# Altium footprint library Freescale_Semiconductor_MCIMX6Q5EYM10ACR_0.PcbLib: 1 footprints
Each footprint in its own frame and in the unit in brackets; x right, y up, seen from the top. Pads: shape width x height; smd on the part's side, far side on the other; paste and mask are expansions set on the pad; w line width, h text height; cw(c..) or ccw(c..) is an arc to the next point about the centre after c.
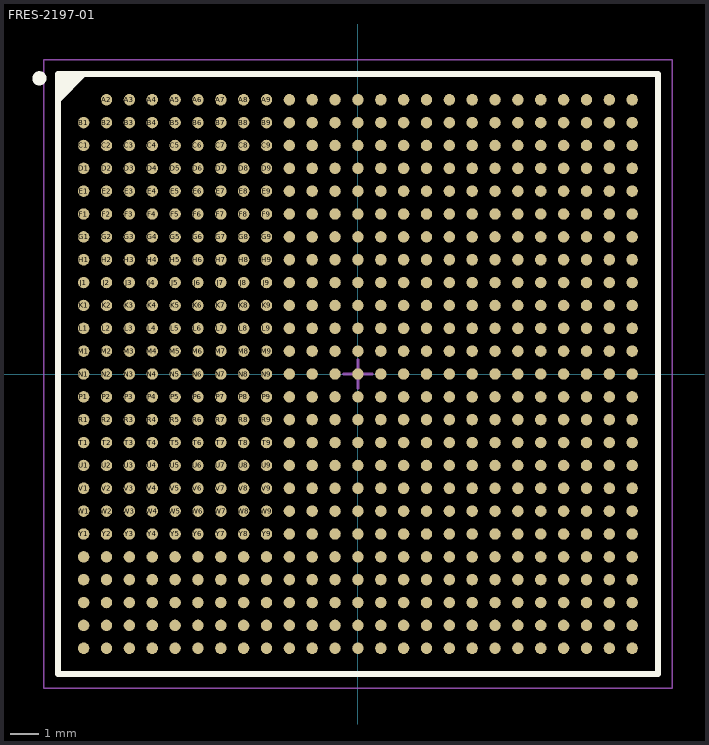
[diagram p0: the footprint, top view; thin cyan lines are the x and y axes]

## FRES-2197-01 [mm] "BGA, 624-Balls, Body 21x21mm, Pitch 0.8mm"
height 1.6
pads (624):
  round 0.4 smd mask+0.05: A2(-8.8,9.6) A3(-8,9.6) A4(-7.2,9.6) A5(-6.4,9.6) A6(-5.6,9.6) A7(-4.8,9.6) A8(-4,9.6) A9(-3.2,9.6) A10(-2.4,9.6) A11(-1.6,9.6) A12(-0.8,9.6) A13(0,9.6) A14(0.8,9.6) A15(1.6,9.6) A16(2.4,9.6) A17(3.2,9.6) A18(4,9.6) A19(4.8,9.6) A20(5.6,9.6) A21(6.4,9.6) A22(7.2,9.6) A23(8,9.6) A24(8.8,9.6) A25(9.6,9.6) AA1(-9.6,-6.4) AA2(-8.8,-6.4) AA3(-8,-6.4) AA4(-7.2,-6.4) AA5(-6.4,-6.4) AA6(-5.6,-6.4) AA7(-4.8,-6.4) AA8(-4,-6.4) AA9(-3.2,-6.4) AA10(-2.4,-6.4) AA11(-1.6,-6.4) AA12(-0.8,-6.4) AA13(0,-6.4) AA14(0.8,-6.4) AA15(1.6,-6.4) AA16(2.4,-6.4) AA17(3.2,-6.4) AA18(4,-6.4) AA19(4.8,-6.4) AA20(5.6,-6.4) AA21(6.4,-6.4) AA22(7.2,-6.4) AA23(8,-6.4) AA24(8.8,-6.4) AA25(9.6,-6.4) AB1(-9.6,-7.2) AB2(-8.8,-7.2) AB3(-8,-7.2) AB4(-7.2,-7.2) AB5(-6.4,-7.2) AB6(-5.6,-7.2) AB7(-4.8,-7.2) AB8(-4,-7.2) AB9(-3.2,-7.2) AB10(-2.4,-7.2) AB11(-1.6,-7.2) AB12(-0.8,-7.2) AB13(0,-7.2) AB14(0.8,-7.2) AB15(1.6,-7.2) AB16(2.4,-7.2) AB17(3.2,-7.2) AB18(4,-7.2) AB19(4.8,-7.2) AB20(5.6,-7.2) AB21(6.4,-7.2) AB22(7.2,-7.2) AB23(8,-7.2) AB24(8.8,-7.2) AB25(9.6,-7.2) AC1(-9.6,-8) AC2(-8.8,-8) AC3(-8,-8) AC4(-7.2,-8) AC5(-6.4,-8) AC6(-5.6,-8) AC7(-4.8,-8) AC8(-4,-8) AC9(-3.2,-8) AC10(-2.4,-8) AC11(-1.6,-8) AC12(-0.8,-8) AC13(0,-8) AC14(0.8,-8) AC15(1.6,-8) AC16(2.4,-8) AC17(3.2,-8) AC18(4,-8) AC19(4.8,-8) AC20(5.6,-8) AC21(6.4,-8) AC22(7.2,-8) AC23(8,-8) AC24(8.8,-8) AC25(9.6,-8) AD1(-9.6,-8.8) AD2(-8.8,-8.8) AD3(-8,-8.8) AD4(-7.2,-8.8) AD5(-6.4,-8.8) AD6(-5.6,-8.8) AD7(-4.8,-8.8) AD8(-4,-8.8) AD9(-3.2,-8.8) AD10(-2.4,-8.8) AD11(-1.6,-8.8) AD12(-0.8,-8.8) AD13(0,-8.8) AD14(0.8,-8.8) AD15(1.6,-8.8) AD16(2.4,-8.8) AD17(3.2,-8.8) AD18(4,-8.8) AD19(4.8,-8.8) AD20(5.6,-8.8) AD21(6.4,-8.8) AD22(7.2,-8.8) AD23(8,-8.8) AD24(8.8,-8.8) AD25(9.6,-8.8) AE1(-9.6,-9.6) AE2(-8.8,-9.6) AE3(-8,-9.6) AE4(-7.2,-9.6) AE5(-6.4,-9.6) AE6(-5.6,-9.6) AE7(-4.8,-9.6) AE8(-4,-9.6) AE9(-3.2,-9.6) AE10(-2.4,-9.6) AE11(-1.6,-9.6) AE12(-0.8,-9.6) AE13(0,-9.6) AE14(0.8,-9.6) AE15(1.6,-9.6) AE16(2.4,-9.6) AE17(3.2,-9.6) AE18(4,-9.6) AE19(4.8,-9.6) AE20(5.6,-9.6) AE21(6.4,-9.6) AE22(7.2,-9.6) AE23(8,-9.6) AE24(8.8,-9.6) AE25(9.6,-9.6) B1(-9.6,8.8) B2(-8.8,8.8) B3(-8,8.8) B4(-7.2,8.8) B5(-6.4,8.8) B6(-5.6,8.8) B7(-4.8,8.8) B8(-4,8.8) B9(-3.2,8.8) B10(-2.4,8.8) B11(-1.6,8.8) B12(-0.8,8.8) B13(0,8.8) B14(0.8,8.8) B15(1.6,8.8) B16(2.4,8.8) B17(3.2,8.8) B18(4,8.8) B19(4.8,8.8) B20(5.6,8.8) B21(6.4,8.8) B22(7.2,8.8) B23(8,8.8) B24(8.8,8.8) B25(9.6,8.8) C1(-9.6,8) C2(-8.8,8) C3(-8,8) C4(-7.2,8) C5(-6.4,8) C6(-5.6,8) C7(-4.8,8) C8(-4,8) C9(-3.2,8) C10(-2.4,8) C11(-1.6,8) C12(-0.8,8) C13(0,8) C14(0.8,8) C15(1.6,8) C16(2.4,8) C17(3.2,8) C18(4,8) C19(4.8,8) C20(5.6,8) C21(6.4,8) C22(7.2,8) C23(8,8) C24(8.8,8) C25(9.6,8) D1(-9.6,7.2) D2(-8.8,7.2) D3(-8,7.2) D4(-7.2,7.2) D5(-6.4,7.2) D6(-5.6,7.2) D7(-4.8,7.2) D8(-4,7.2) D9(-3.2,7.2) D10(-2.4,7.2) D11(-1.6,7.2) D12(-0.8,7.2) D13(0,7.2) D14(0.8,7.2) D15(1.6,7.2) D16(2.4,7.2) D17(3.2,7.2) D18(4,7.2) D19(4.8,7.2) D20(5.6,7.2) D21(6.4,7.2) D22(7.2,7.2) D23(8,7.2) D24(8.8,7.2) D25(9.6,7.2) E1(-9.6,6.4) E2(-8.8,6.4) E3(-8,6.4) E4(-7.2,6.4) E5(-6.4,6.4) E6(-5.6,6.4) E7(-4.8,6.4) E8(-4,6.4) E9(-3.2,6.4) E10(-2.4,6.4) E11(-1.6,6.4) E12(-0.8,6.4) E13(0,6.4) E14(0.8,6.4) E15(1.6,6.4) E16(2.4,6.4) E17(3.2,6.4) E18(4,6.4) E19(4.8,6.4) E20(5.6,6.4) E21(6.4,6.4) E22(7.2,6.4) E23(8,6.4) E24(8.8,6.4) E25(9.6,6.4) F1(-9.6,5.6) F2(-8.8,5.6) F3(-8,5.6) F4(-7.2,5.6) F5(-6.4,5.6) F6(-5.6,5.6) F7(-4.8,5.6) F8(-4,5.6) F9(-3.2,5.6) F10(-2.4,5.6) F11(-1.6,5.6) F12(-0.8,5.6) F13(0,5.6) F14(0.8,5.6) F15(1.6,5.6) F16(2.4,5.6) F17(3.2,5.6) F18(4,5.6) F19(4.8,5.6) F20(5.6,5.6) F21(6.4,5.6) F22(7.2,5.6) F23(8,5.6) F24(8.8,5.6) F25(9.6,5.6) G1(-9.6,4.8) G2(-8.8,4.8) G3(-8,4.8) G4(-7.2,4.8) G5(-6.4,4.8) G6(-5.6,4.8) G7(-4.8,4.8) G8(-4,4.8) G9(-3.2,4.8) G10(-2.4,4.8) G11(-1.6,4.8) G12(-0.8,4.8) G13(0,4.8) G14(0.8,4.8) G15(1.6,4.8) G16(2.4,4.8) G17(3.2,4.8) G18(4,4.8) G19(4.8,4.8) G20(5.6,4.8) G21(6.4,4.8) G22(7.2,4.8) G23(8,4.8) G24(8.8,4.8) G25(9.6,4.8) H1(-9.6,4) H2(-8.8,4) H3(-8,4) H4(-7.2,4) H5(-6.4,4) H6(-5.6,4) H7(-4.8,4) H8(-4,4) H9(-3.2,4) H10(-2.4,4) H11(-1.6,4) H12(-0.8,4) H13(0,4) H14(0.8,4) H15(1.6,4) H16(2.4,4) H17(3.2,4) H18(4,4) H19(4.8,4) H20(5.6,4) H21(6.4,4) H22(7.2,4) H23(8,4) H24(8.8,4) H25(9.6,4) J1(-9.6,3.2) J2(-8.8,3.2) J3(-8,3.2) J4(-7.2,3.2) J5(-6.4,3.2) J6(-5.6,3.2) J7(-4.8,3.2) J8(-4,3.2) J9(-3.2,3.2) J10(-2.4,3.2) J11(-1.6,3.2) J12(-0.8,3.2) J13(0,3.2) J14(0.8,3.2) J15(1.6,3.2) J16(2.4,3.2) J17(3.2,3.2) J18(4,3.2) J19(4.8,3.2) J20(5.6,3.2) J21(6.4,3.2) J22(7.2,3.2) J23(8,3.2) J24(8.8,3.2) J25(9.6,3.2) K1(-9.6,2.4) K2(-8.8,2.4) K3(-8,2.4) K4(-7.2,2.4) K5(-6.4,2.4) K6(-5.6,2.4) K7(-4.8,2.4) K8(-4,2.4) K9(-3.2,2.4) K10(-2.4,2.4) K11(-1.6,2.4) K12(-0.8,2.4) K13(0,2.4) K14(0.8,2.4) K15(1.6,2.4) K16(2.4,2.4) K17(3.2,2.4) K18(4,2.4) K19(4.8,2.4) K20(5.6,2.4) K21(6.4,2.4) K22(7.2,2.4) K23(8,2.4) K24(8.8,2.4) K25(9.6,2.4) L1(-9.6,1.6) L2(-8.8,1.6) L3(-8,1.6) L4(-7.2,1.6) L5(-6.4,1.6) L6(-5.6,1.6) L7(-4.8,1.6) L8(-4,1.6) L9(-3.2,1.6) L10(-2.4,1.6) L11(-1.6,1.6) L12(-0.8,1.6) L13(0,1.6) L14(0.8,1.6) L15(1.6,1.6) L16(2.4,1.6) L17(3.2,1.6) L18(4,1.6) L19(4.8,1.6) L20(5.6,1.6) L21(6.4,1.6) L22(7.2,1.6) L23(8,1.6) L24(8.8,1.6) L25(9.6,1.6) M1(-9.6,0.8) M2(-8.8,0.8) M3(-8,0.8) M4(-7.2,0.8) M5(-6.4,0.8) M6(-5.6,0.8) M7(-4.8,0.8) M8(-4,0.8) M9(-3.2,0.8) M10(-2.4,0.8) M11(-1.6,0.8) M12(-0.8,0.8) M13(0,0.8) M14(0.8,0.8) M15(1.6,0.8) M16(2.4,0.8) M17(3.2,0.8) M18(4,0.8) M19(4.8,0.8) M20(5.6,0.8) M21(6.4,0.8) M22(7.2,0.8) M23(8,0.8) M24(8.8,0.8) M25(9.6,0.8) N1(-9.6,0) N2(-8.8,0) N3(-8,0) N4(-7.2,0) N5(-6.4,0) N6(-5.6,0) N7(-4.8,0) N8(-4,0) N9(-3.2,0) N10(-2.4,0) N11(-1.6,0) N12(-0.8,0) N13(0,0) N14(0.8,0) N15(1.6,0) N16(2.4,0) N17(3.2,0) N18(4,0) N19(4.8,0) N20(5.6,0) N21(6.4,0) N22(7.2,0) N23(8,0) N24(8.8,0) N25(9.6,0) P1(-9.6,-0.8) P2(-8.8,-0.8) P3(-8,-0.8) P4(-7.2,-0.8) P5(-6.4,-0.8) P6(-5.6,-0.8) P7(-4.8,-0.8) P8(-4,-0.8) P9(-3.2,-0.8) P10(-2.4,-0.8) P11(-1.6,-0.8) P12(-0.8,-0.8) P13(0,-0.8) P14(0.8,-0.8) P15(1.6,-0.8) P16(2.4,-0.8) P17(3.2,-0.8) P18(4,-0.8) P19(4.8,-0.8) P20(5.6,-0.8) P21(6.4,-0.8) P22(7.2,-0.8) P23(8,-0.8) P24(8.8,-0.8) P25(9.6,-0.8) R1(-9.6,-1.6) R2(-8.8,-1.6) R3(-8,-1.6) R4(-7.2,-1.6) R5(-6.4,-1.6) R6(-5.6,-1.6) R7(-4.8,-1.6) R8(-4,-1.6) R9(-3.2,-1.6) R10(-2.4,-1.6) R11(-1.6,-1.6) R12(-0.8,-1.6) R13(0,-1.6) R14(0.8,-1.6) R15(1.6,-1.6) R16(2.4,-1.6) R17(3.2,-1.6) R18(4,-1.6) R19(4.8,-1.6) R20(5.6,-1.6) R21(6.4,-1.6) R22(7.2,-1.6) R23(8,-1.6) R24(8.8,-1.6) R25(9.6,-1.6) T1(-9.6,-2.4) T2(-8.8,-2.4) T3(-8,-2.4) T4(-7.2,-2.4) T5(-6.4,-2.4) T6(-5.6,-2.4) T7(-4.8,-2.4) T8(-4,-2.4) T9(-3.2,-2.4) T10(-2.4,-2.4) T11(-1.6,-2.4) T12(-0.8,-2.4) T13(0,-2.4) T14(0.8,-2.4) T15(1.6,-2.4) T16(2.4,-2.4) T17(3.2,-2.4) T18(4,-2.4) T19(4.8,-2.4) T20(5.6,-2.4) T21(6.4,-2.4) T22(7.2,-2.4) T23(8,-2.4) T24(8.8,-2.4) T25(9.6,-2.4) U1(-9.6,-3.2) U2(-8.8,-3.2) U3(-8,-3.2) U4(-7.2,-3.2) U5(-6.4,-3.2) U6(-5.6,-3.2) U7(-4.8,-3.2) U8(-4,-3.2) U9(-3.2,-3.2) U10(-2.4,-3.2) U11(-1.6,-3.2) U12(-0.8,-3.2) U13(0,-3.2) U14(0.8,-3.2) U15(1.6,-3.2) U16(2.4,-3.2) U17(3.2,-3.2) U18(4,-3.2) U19(4.8,-3.2) U20(5.6,-3.2) U21(6.4,-3.2) U22(7.2,-3.2) U23(8,-3.2) U24(8.8,-3.2) U25(9.6,-3.2) V1(-9.6,-4) V2(-8.8,-4) V3(-8,-4) V4(-7.2,-4) V5(-6.4,-4) V6(-5.6,-4) V7(-4.8,-4) V8(-4,-4) V9(-3.2,-4) V10(-2.4,-4) V11(-1.6,-4) V12(-0.8,-4) V13(0,-4) V14(0.8,-4) V15(1.6,-4) V16(2.4,-4) V17(3.2,-4) V18(4,-4) V19(4.8,-4) V20(5.6,-4) V21(6.4,-4) V22(7.2,-4) V23(8,-4) V24(8.8,-4) V25(9.6,-4) W1(-9.6,-4.8) W2(-8.8,-4.8) W3(-8,-4.8) W4(-7.2,-4.8) W5(-6.4,-4.8) W6(-5.6,-4.8) W7(-4.8,-4.8) W8(-4,-4.8) W9(-3.2,-4.8) W10(-2.4,-4.8) W11(-1.6,-4.8) W12(-0.8,-4.8) W13(0,-4.8) W14(0.8,-4.8) W15(1.6,-4.8) W16(2.4,-4.8) W17(3.2,-4.8) W18(4,-4.8) W19(4.8,-4.8) W20(5.6,-4.8) W21(6.4,-4.8) W22(7.2,-4.8) W23(8,-4.8) W24(8.8,-4.8) W25(9.6,-4.8) Y1(-9.6,-5.6) Y2(-8.8,-5.6) Y3(-8,-5.6) Y4(-7.2,-5.6) Y5(-6.4,-5.6) Y6(-5.6,-5.6) Y7(-4.8,-5.6) Y8(-4,-5.6) Y9(-3.2,-5.6) Y10(-2.4,-5.6) Y11(-1.6,-5.6) Y12(-0.8,-5.6) Y13(0,-5.6) Y14(0.8,-5.6) Y15(1.6,-5.6) Y16(2.4,-5.6) Y17(3.2,-5.6) Y18(4,-5.6) Y19(4.8,-5.6) Y20(5.6,-5.6) Y21(6.4,-5.6) Y22(7.2,-5.6) Y23(8,-5.6) Y24(8.8,-5.6) Y25(9.6,-5.6)
Top Overlay:
  circle w0.25: c-11.15,10.35 r0.125
  region: -9.584,10.5 -10.5,9.584 -10.5,10.5
  lines w0.2: -10.5,9.584 -9.584,10.5 ; -10.5,-10.5 -10.5,10.5 10.5,10.5 10.5,-10.5 -10.5,-10.5
Mechanical 13:
  lines w0.1: -10.5,-10.5 -10.5,10.5 10.5,10.5 10.5,-10.5 -10.5,-10.5
Mechanical 15:
  lines w0.05: -11,-11 -11,11 11,11 11,-11 -11,-11
  lines w0.1: -0.5,0 0.5,0 ; 0,-0.5 0,0.5
3D body "i_MX6QuadAEC.step": height 2.03, standoff 0.05, extent -10.5,-10.5 10.5,10.5